# Altium footprint library PCB1.PcbLib: 15 footprints
Each footprint in its own frame and in the unit in brackets; x right, y up, seen from the top. Pads: shape width x height; smd on the part's side, far side on the other; paste and mask are expansions set on the pad; w line width, h text height; cw(c..) or ccw(c..) is an arc to the next point about the centre after c.
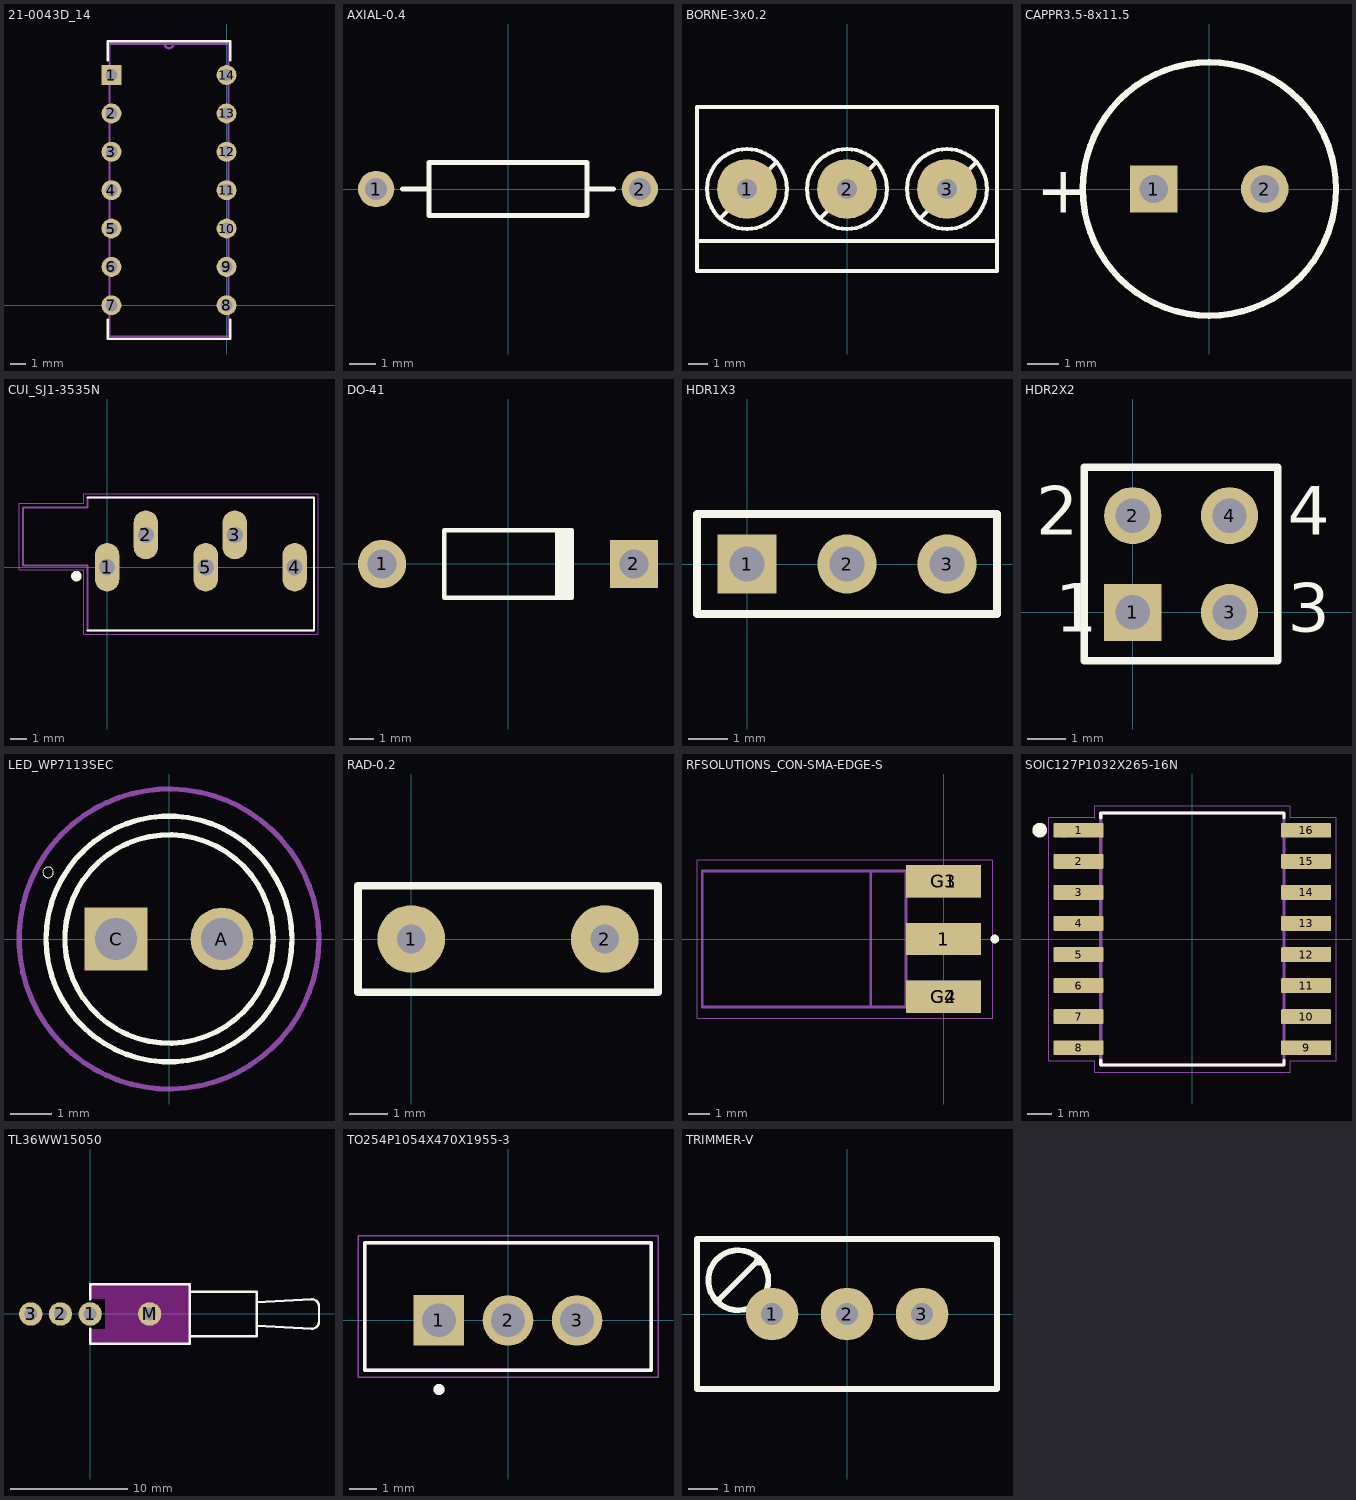
[diagram p0: the footprints below, top view; thin cyan lines are the x and y axes]

## 21-0043D_14 [mil]
pads (14):
  rect 52x52 hole 32: 1(-300,600)
  round 52 hole 32: 2(-300,500) 3(-300,400) 4(-300,300) 5(-300,200) 6(-300,100) 7(-300,0) 8(0,0) 9(0,100) 10(0,200) 11(0,300) 12(0,400) 13(0,500) 14(0,600)
Top Overlay:
  lines w6: -310,-38 -310,-88 10,-88 10,-38 ; -310,639 -310,688 10,688 10,638
Mechanical 13:
  lines w6: -162,682 ccw(c-150,682) -138,682 ; -162,682 -305,682 -305,-82 5,-82 5,682 -138,682 ; -162,682 -138,682 ; -316,-16 -305,-16 -305,16 -316,16 -316,-16 ; -316,84 -305,84 -305,116 -316,116 -316,84 ; -316,184 -305,184 -305,216 -316,216 -316,184 ; -316,284 -305,284 -305,316 -316,316 -316,284 ; -316,384 -305,384 -305,416 -316,416 -316,384 ; -316,484 -305,484 -305,516 -316,516 -316,484 ; -316,584 -305,584 -305,616 -316,616 -316,584 ; 5,-16 16,-16 16,16 5,16 5,-16 ; 5,84 16,84 16,116 5,116 5,84 ; 5,184 16,184 16,216 5,216 5,184 ; 5,284 16,284 16,316 5,316 5,284 ; 5,384 16,384 16,416 5,416 5,384 ; 5,484 16,484 16,516 5,516 5,484 ; 5,584 16,584 16,616 5,616 5,584

## AXIAL-0.4 [mm]
pads (2):
  round 1.4 hole 0.85: 1(-5.08,0) 2(5.08,0)
Top Overlay:
  lines w0.2: -4.064,0 -3.048,0 ; 3.048,0 4.064,0 ; -3.048,-1.016 3.048,-1.016 3.048,1.016 -3.048,1.016 -3.048,-1.016

## BORNE-3x0.2 [mil]
pads (3):
  round 120 hole 39.37: 1(-200,0) 2(0,0) 3(200,0)
Top Overlay:
  circle w7.87: c-200,0 r80
  circle w7.87: c200,0 r80
  circle w7.87: c0,0 r80
  lines w7.87: -300,-104 300,-104 ; -250,-55 -145,50 ; -50,-55 55,50 ; 150,-55 255,50 ; -300,-164 -300,164 300,164 300,-164 -300,-164

## CAPPR3.5-8x11.5 [mm]
pads (2):
  rect 1.5x1.5 hole 0.9: 1(-1.75,0)
  round 1.5 hole 0.9: 2(1.75,0)
Top Overlay:
  circle w0.2: c0,0 r4
  text "+" at -5.475,-0.75 h1.5

## CUI_SJ1-3535N [mm]
pads (5):
  oval 1.508x3.016 hole 1 square: 1(0,0) 2(2.4,2) 3(7.9,2) 4(11.6,0) 5(6.1,0)
Top Overlay:
  circle w0.35: c-1.9,-0.55 r0.15
  lines w0.127: -1.2,-3.9 12.8,-3.9 12.8,4.3 -1.2,4.3
Mechanical 13:
  lines w0.127: -5.2,0.1 -5.2,3.7 -1.2,3.7 -1.2,4.3 12.8,4.3 12.8,-3.9 -1.2,-3.9 -1.2,0.1 -5.2,0.1
Mechanical 15:
  lines w0.05: -5.45,-0.15 -5.45,3.95 -1.45,3.95 -1.45,4.55 13.05,4.55 13.05,-4.15 -1.45,-4.15 -1.45,-0.15 -5.45,-0.15

## DO-41 [mm]
pads (2):
  round 2 hole 1.2: 1(-5.23,0)
  rect 2x2 hole 1.2: 2(5.23,0)
Top Overlay:
  rectangle: 1.95,-1.4 2.75,1.4
  lines w0.2: 2.65,-1.4 -2.65,-1.4 -2.65,1.4 2.65,1.4

## HDR1X3 [mm]
pads (3):
  rect 1.5x1.5 hole 0.9: 1(0,0)
  round 1.5 hole 0.9: 2(2.54,0) 3(5.08,0)
Top Overlay:
  lines w0.2: -1.27,-1.27 6.35,-1.27 6.35,1.27 -1.27,1.27 -1.27,-1.27

## HDR2X2 [mm]
pads (4):
  rect 1.5x1.5 hole 0.9: 1(0,0)
  round 1.5 hole 0.9: 2(0,2.54) 3(2.54,0) 4(2.54,2.54)
Top Overlay:
  lines w0.2: -1.27,-1.27 3.81,-1.27 3.81,3.81 -1.27,3.81 -1.27,-1.27
  text "3" at 4.064,-0.508 h1.27
  text "4" at 4.064,2.032 h1.27
  text "2" at -2.54,2.032 h1.27
  text "1" at -2.032,-0.508 h1.27

## LED_WP7113SEC [mm]
pads (2):
  round 1.508 hole 1: A(1.27,0)
  rect 1.508x1.508 hole 1: C(-1.27,0)
Top Overlay:
  circle w0.127: c0,0 r2.95
  circle w0.127: c0,0 r2.5
  circle w0: c-2.9,1.6 r0.127
Mechanical 15:
  circle w0.127: c0,0 r3.6

## RAD-0.2 [mil]
pads (2):
  round 70 hole 29.53: 1(0,0) 2(200,0)
Top Overlay:
  lines w7.87: -55,-55 255,-55 255,55 100,55 -55,55 -55,-55

## RFSOLUTIONS_CON-SMA-EDGE-S [mm]
pads (5):
  rect 3.5x1.5 smd: 1(0,0) G1(0,2.7) G2(0,-2.7)
  rect 3.5x1.5 smd far side: G3(0,2.7) G4(0,-2.7)
Top Overlay:
  circle w0.2: c2.4,0 r0.1
Mechanical 13:
  circle w0.2: c2.4,0 r0.1
  lines w0.05: -11.52,-3.7 -11.52,3.7 2.31,3.7 2.31,-3.7 -11.52,-3.7
  lines w0.127: -11.27,-3.175 -11.27,3.175 ; -11.27,-3.175 -3.4,-3.175 ; -11.27,-3.175 -3.4,-3.175 ; -11.27,-3.175 -11.27,3.175 ; -11.27,3.175 -3.4,3.175 ; -11.27,3.175 -3.4,3.175 ; -3.4,-3.175 -1.75,-3.175 ; -3.4,-3.175 -3.4,3.175 ; -3.4,-3.175 -3.4,3.175 ; -3.4,-3.175 -1.75,-3.175 ; -3.4,3.175 -1.75,3.175 ; -3.4,3.175 -1.75,3.175 ; -1.75,-3.175 -1.75,3.175 ; -1.75,-3.175 -1.75,3.175
Mechanical 15:
  lines w0.05: -11.52,-3.7 -11.52,3.7 2.31,3.7 2.31,-3.7 -11.52,-3.7

## SOIC127P1032X265-16N [mm]
pads (16):
  rrect15% 2.05x0.6 smd: 1(-4.655,4.445) 2(-4.655,3.175) 3(-4.655,1.905) 4(-4.655,0.635) 5(-4.655,-0.635) 6(-4.655,-1.905) 7(-4.655,-3.175) 8(-4.655,-4.445) 9(4.655,-4.445) 10(4.655,-3.175) 11(4.655,-1.905) 12(4.655,-0.635) 13(4.655,0.635) 14(4.655,1.905) 15(4.655,3.175) 16(4.655,4.445)
Top Overlay:
  circle w0.3: c-6.25,4.455 r0.15
  lines w0.127: -3.75,-4.955 -3.75,-5.15 3.75,-5.15 3.75,-4.955 ; -3.75,4.955 -3.75,5.15 3.75,5.15 3.75,4.955
Mechanical 13:
  circle w0.3: c-5.25,4.455 r0.15
  lines w0.127: -3.75,-5.15 -3.75,5.15 3.75,5.15 3.75,-5.15 -3.75,-5.15
Mechanical 15:
  lines w0.05: -5.88,-4.975 -5.88,4.975 -4,4.975 -4,5.45 4,5.45 4,4.975 5.88,4.975 5.88,-4.975 4,-4.975 4,-5.45 -4,-5.45 -4,-4.975 -5.88,-4.975

## TL36WW15050 [mm]
pads (4):
  round 2 hole 1.1: 1(0,0) 2(-2.54,0) 3(-5.08,0) M(5.08,0)
Top Layer keep-out:
  region: 1.27,2.54 1.27,-2.54 8.509,-2.54 8.509,2.54
  region: 0,2.54 0,1.27 1.27,1.27 1.27,2.54
  region: 0,-1.27 0,-2.54 1.27,-2.54 1.27,-1.27
Top Overlay:
  lines w0.2: 0,-1.27 0,-2.54 8.509,-2.54 8.509,2.54 0,2.54 0,1.27 ; 8.509,-1.905 14.224,-1.905 14.224,1.905 8.509,1.905 ; 14.224,-1.016 18.923,-1.27 ccw(c18.923,-0.635) 19.558,-0.635 19.558,0.635 ccw(c18.923,0.635) 18.923,1.27 14.224,1.016

## TO254P1054X470X1955-3 [mm]
pads (3):
  rect 1.86x1.86 hole 1.24: 1(-2.54,0)
  round 1.86 hole 1.24: 2(0,0) 3(2.54,0)
Top Overlay:
  circle w0.2: c-2.54,-2.54 r0.1
  lines w0.127: -5.27,-1.84 5.27,-1.84 5.27,2.86 -5.27,2.86 -5.27,-1.84
Mechanical 13:
  circle w0.2: c-2.54,-2.54 r0.1
  lines w0.127: -5.27,-1.84 5.27,-1.84 5.27,2.86 -5.27,2.86 -5.27,-1.84
Mechanical 15:
  lines w0.05: -5.52,-2.09 5.52,-2.09 5.52,3.11 -5.52,3.11 -5.52,-2.09

## TRIMMER-V [mil]
pads (3):
  round 70 hole 29.53: 1(-100,0) 2(0,0) 3(100,0)
Top Overlay:
  circle w7.87: c-145,45 r40
  lines w7.87: -170,20 -120,70 ; -200,-100 -200,100 200,100 200,-100 -200,-100
  lines w10: -120,70 -115,70